# EAGLE library part ATMEGA1284P-AU (library Atmel)
Atmega1284P-AU, TQFP44 Package, Digikey: ATMEGA1284P-AURCT-ND, 128kb Flash, 3 SPI, 2 USART, 1 I2C
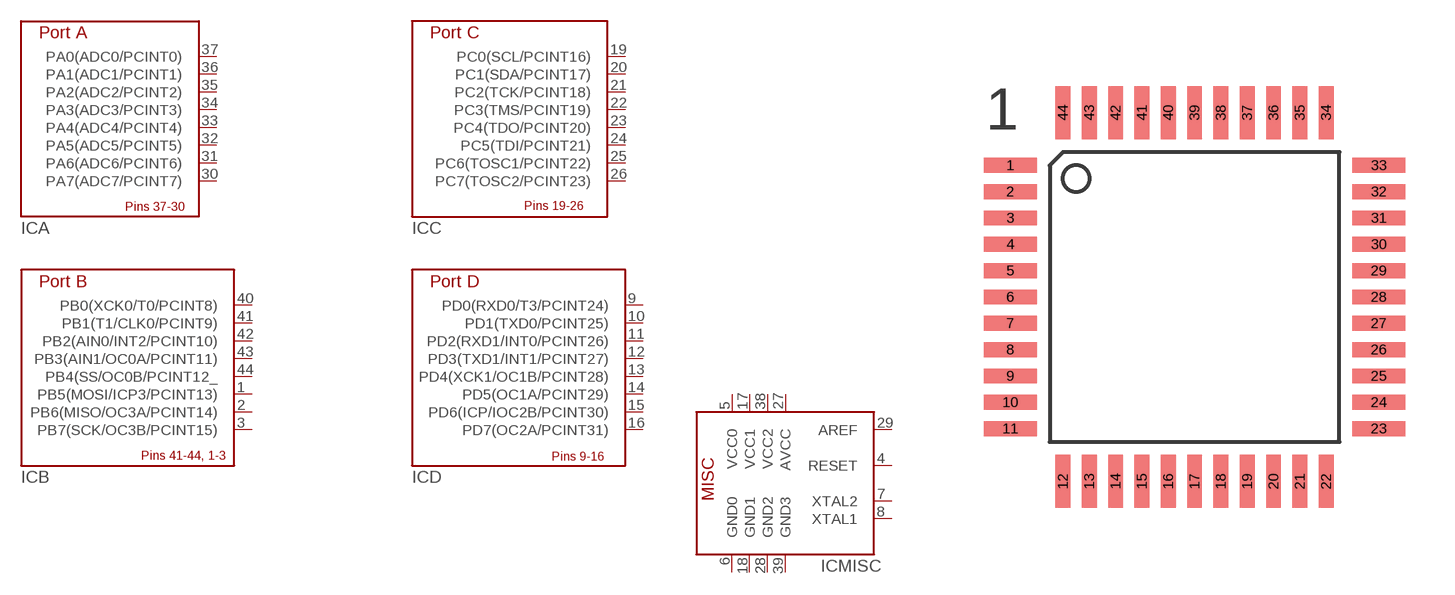
[diagram p18: symbol with the pads of TQFP44; footprint TQFP44]

Designator prefix IC; gates A=ATMEGA1284P-A B=ATMEGA1284P-B C=ATMEGA1284P-C D=ATMEGA1284P-D MISC=ATMEGA1284P-MISC

## ATMEGA1284P-AU  [TQFP44]
1  B:PB5(MOSI/ICP3/PCINT13)
2  B:PB6(MISO/OC3A/PCINT14)
3  B:PB7(SCK/OC3B/PCINT15)
4  MISC:RESET
5  MISC:VCC0  pwr
6  MISC:GND0  pwr
7  MISC:XTAL2
8  MISC:XTAL1
9  D:PD0(RXD0/T3/PCINT24)
10  D:PD1(TXD0/PCINT25)
11  D:PD2(RXD1/INT0/PCINT26)
12  D:PD3(TXD1/INT1/PCINT27)
13  D:PD4(XCK1/OC1B/PCINT28)
14  D:PD5(OC1A/PCINT29)
15  D:PD6(ICP/IOC2B/PCINT30)
16  D:PD7(OC2A/PCINT31)
17  MISC:VCC1  pwr
18  MISC:GND1  pwr
19  C:PC0(SCL/PCINT16)
20  C:PC1(SDA/PCINT17)
21  C:PC2(TCK/PCINT18)
22  C:PC3(TMS/PCINT19)
23  C:PC4(TDO/PCINT20)
24  C:PC5(TDI/PCINT21)
25  C:PC6(TOSC1/PCINT22)
26  C:PC7(TOSC2/PCINT23)
27  MISC:AVCC  pwr
28  MISC:GND2  pwr
29  MISC:AREF
30  A:PA7(ADC7/PCINT7)
31  A:PA6(ADC6/PCINT6)
32  A:PA5(ADC5/PCINT5)
33  A:PA4(ADC4/PCINT4)
34  A:PA3(ADC3/PCINT3)
35  A:PA2(ADC2/PCINT2)
36  A:PA1(ADC1/PCINT1)
37  A:PA0(ADC0/PCINT0)
38  MISC:VCC2  pwr
39  MISC:GND3  pwr
40  B:PB0(XCK0/T0/PCINT8)
41  B:PB1(T1/CLK0/PCINT9)
42  B:PB2(AIN0/INT2/PCINT10)
43  B:PB3(AIN1/OC0A/PCINT11)
44  B:PB4(SS/OC0B/PCINT12_

## Footprint TQFP44 (pad centres in mm)
smd 1.6 x 0.45: 1 -5.6,4; 2 -5.6,3.2; 3 -5.6,2.4; 4 -5.6,1.6; 5 -5.6,0.8; 6 -5.6,0; 7 -5.6,-0.8; 8 -5.6,-1.6; 9 -5.6,-2.4; 10 -5.6,-3.2; 11 -5.6,-4; 23 5.6,-4; 24 5.6,-3.2; 25 5.6,-2.4; 26 5.6,-1.6; 27 5.6,-0.8; 28 5.6,0; 29 5.6,0.8; 30 5.6,1.6; 31 5.6,2.4; 32 5.6,3.2; 33 5.6,4
smd 0.45 x 1.6: 12 -4,-5.6; 13 -3.2,-5.6; 14 -2.4,-5.6; 15 -1.6,-5.6; 16 -0.8,-5.6; 17 0,-5.6; 18 0.8,-5.6; 19 1.6,-5.6; 20 2.4,-5.6; 21 3.2,-5.6; 22 4,-5.6; 34 4,5.6; 35 3.2,5.6; 36 2.4,5.6; 37 1.6,5.6; 38 0.8,5.6; 39 0,5.6; 40 -0.8,5.6; 41 -1.6,5.6; 42 -2.4,5.6; 43 -3.2,5.6; 44 -4,5.6